# Altium schematic symbol library brew_schematic_lib.SchLib: 11 symbols
Pins are listed as number, name and electrical type; pins without a type are passive.

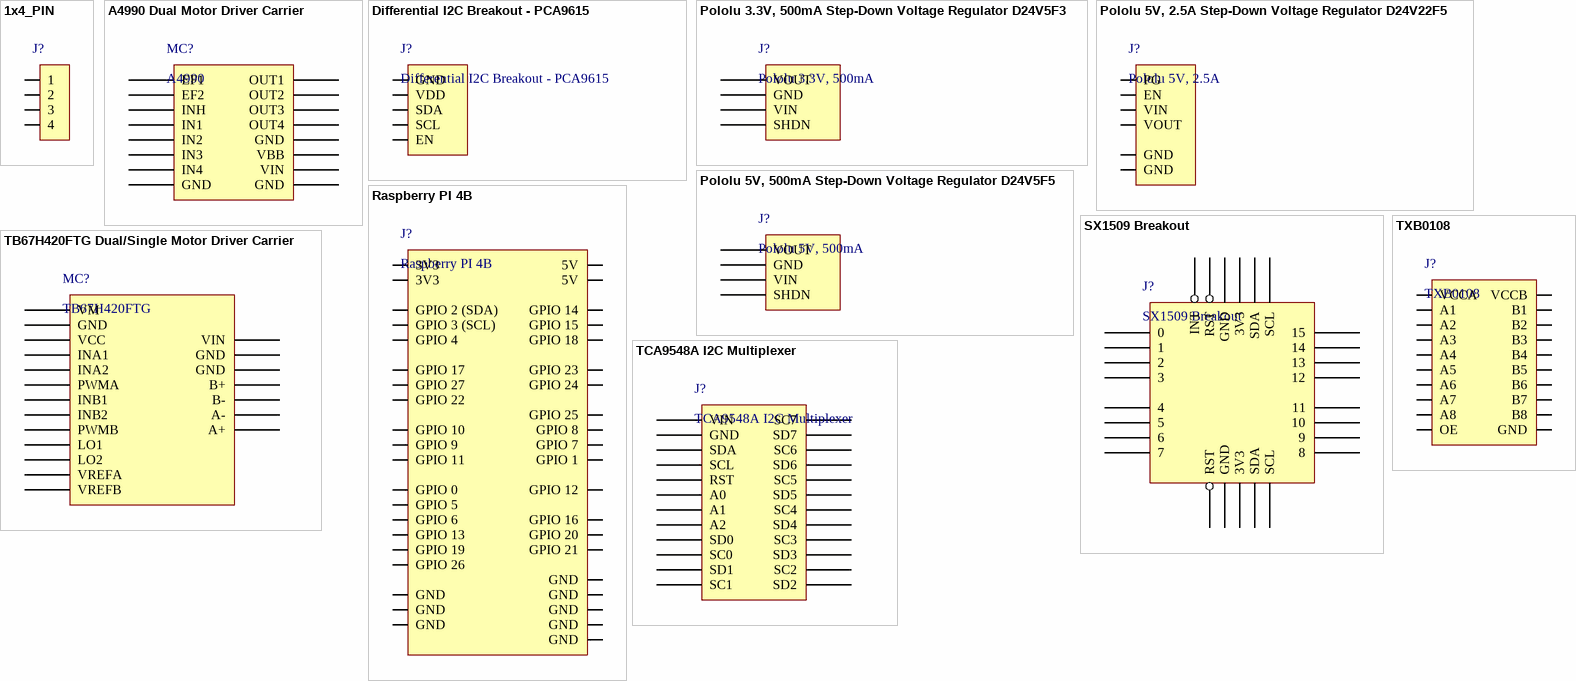
[diagram p0: symbols 1x4_PIN to TXB0108]

## 1x4_PIN
designator J?  (value not drawn)
footprint 1x4_PIN
pins: 1, 2, 3, 4

## A4990 Dual Motor Driver Carrier
designator MC?, comment A4990
footprint A4990 Dual Motor Driver Carrier
pins: 1 EF1, 2 EF2, 3 INH, 4 IN1, 5 IN2, 6 IN3, 7 IN4, 8 GND, 9 GND, 10 VIN, 11 VBB, 12 GND, 13 OUT4, 14 OUT3, 15 OUT2, 16 OUT1

## Differential I2C Breakout - PCA9615
designator J?
footprint Differential I2C Breakout - PCA9615
pins: 1 GND, 2 VDD, 3 SDA, 4 SCL, 5 EN

## Pololu 3.3V, 500mA Step-Down Voltage Regulator D24V5F3
designator J?, comment Pololu 3.3V, 500mA
footprint Pololu 3.3V, 500mA Step-Down Voltage Regulator D24V5F3 - duplicate
footprint Pololu 3.3V, 500mA Step-Down Voltage Regulator D24V5F3 - duplicate
pins: 1 VOUT, 2 GND, 3 VIN, 4 SHDN

## Pololu 5V, 2.5A Step-Down Voltage Regulator D24V22F5
designator J?, comment Pololu 5V, 2.5A
footprint Pololu 5V, 2.5A Step-Down Voltage Regulator D24V22F5
pins: 1 PG, 2 EN, 3 VIN, 4 GND, 5 VOUT, 6 GND

## Pololu 5V, 500mA Step-Down Voltage Regulator D24V5F5
designator J?, comment Pololu 5V, 500mA
footprint Pololu 5V, 500mA Step-Down Voltage Regulator D24V5F5
pins: 1 VOUT, 2 GND, 3 VIN, 4 SHDN

## Raspberry PI 4B
designator J?
footprint Raspberry PI 4B
pins: 1 3V3, 2 5V, 3 GPIO 2 (SDA), 4 5V, 5 GPIO 3 (SCL), 6 GND, 7 GPIO 4, 8 GPIO 14, 9 GND, 10 GPIO 15, 11 GPIO 17, 12 GPIO 18, 13 GPIO 27, 14 GND, 15 GPIO 22, 16 GPIO 23, 17 3V3, 18 GPIO 24, 19 GPIO 10, 20 GND, 21 GPIO 9, 22 GPIO 25, 23 GPIO 11, 24 GPIO 8, 25 GND, 26 GPIO 7, 27 GPIO 0, 28 GPIO 1, 29 GPIO 5, 30 GND, 31 GPIO 6, 32 GPIO 12, 33 GPIO 13, 34 GND, 35 GPIO 19, 36 GPIO 16, 37 GPIO 26, 38 GPIO 20, 39 GND, 40 GPIO 21

## SX1509 Breakout
designator J?
footprint SX1509 Breakout
pins: 1 0, 2 1, 3 2, 4 3, 5 4, 6 5, 7 6, 8 7, 9 RST, 10 GND, 11 3V3, 12 SDA, 13 SCL, 14 8, 15 9, 16 10, 17 11, 18 12, 19 13, 20 14, 21 15, 22 SCL, 23 SDA, 24 3V3, 25 GND, 26 RST, 27 INT

## TB67H420FTG Dual/Single Motor Driver Carrier
designator MC?, comment TB67H420FTG
footprint TB67H420FTG Dual/Single Motor Driver Carrier
pins: 1 VM, 2 GND, 3 VCC, 4 INA1, 5 INA2, 6 PWMA, 7 INB1, 8 INB2, 9 PWMB, 10 LO1, 11 LO2, 12 VREFA, 13 VREFB, 14 A+, 15 A-, 16 B-, 17 B+, 18 GND, 19 GND, 20 VIN

## TCA9548A I2C Multiplexer
designator J?
footprint TCA9548A I2C Multiplexer
pins: 1 VIN, 2 GND, 3 SDA, 4 SCL, 5 RST, 6 A0, 7 A1, 8 A2, 9 SD0, 10 SC0, 11 SD1, 12 SC1, 13 SD2, 14 SC2, 15 SD3, 16 SC3, 17 SD4, 18 SC4, 19 SD5, 20 SC5, 21 SD6, 22 SC6, 23 SD7, 24 SC7

## TXB0108
designator J?
footprint TXB0108
pins: 1 VCCA, 2 A1, 3 A2, 4 A3, 5 A4, 6 A5, 7 A6, 8 A7, 9 A8, 10 OE, 11 GND, 12 B8, 13 B7, 14 B6, 15 B5, 16 B4, 17 B3, 18 B2, 19 B1, 20 VCCB